# Altium footprint library LEDC3216X120NYEL.PcbLib: 1 footprints
Each footprint in its own frame and in the unit in brackets; x right, y up, seen from the top. Pads: shape width x height; smd on the part's side, far side on the other; paste and mask are expansions set on the pad; w line width, h text height; cw(c..) or ccw(c..) is an arc to the next point about the centre after c.
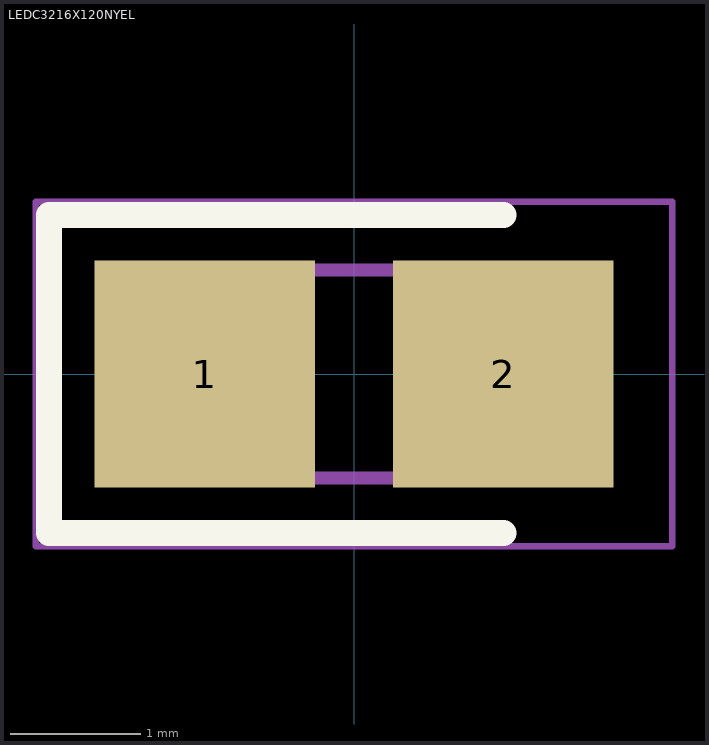
[diagram p0: the footprint, top view; thin cyan lines are the x and y axes]

## LEDC3216X120NYEL [mm]
pads (2):
  rect 1.7x1.75 smd: 1(-1.15,0) 2(1.15,0)
L26-Silk Screen Top (Multiple PADS layers...):
  lines w0.2: 1.15,-1.225 -2.35,-1.225 -2.35,1.225 1.15,1.225
L15 (Multiple PADS layers...):
  lines w0.1: -1.6,0.267 -1.067,0.8 ; -1.6,-0.8 -1.6,0.8 1.6,0.8 1.6,-0.8 -1.6,-0.8
L20:
  lines w0.05: -2.45,-1.325 -2.45,1.325 2.45,1.325 2.45,-1.325 -2.45,-1.325
3D body "LED 1206 Yel.stp": height 1.1, standoff 0, extent -1.6,-0.8 1.6,0.8